# Altium integrated library NSC Analog.IntLib: 143 symbols (part 4 of 4)
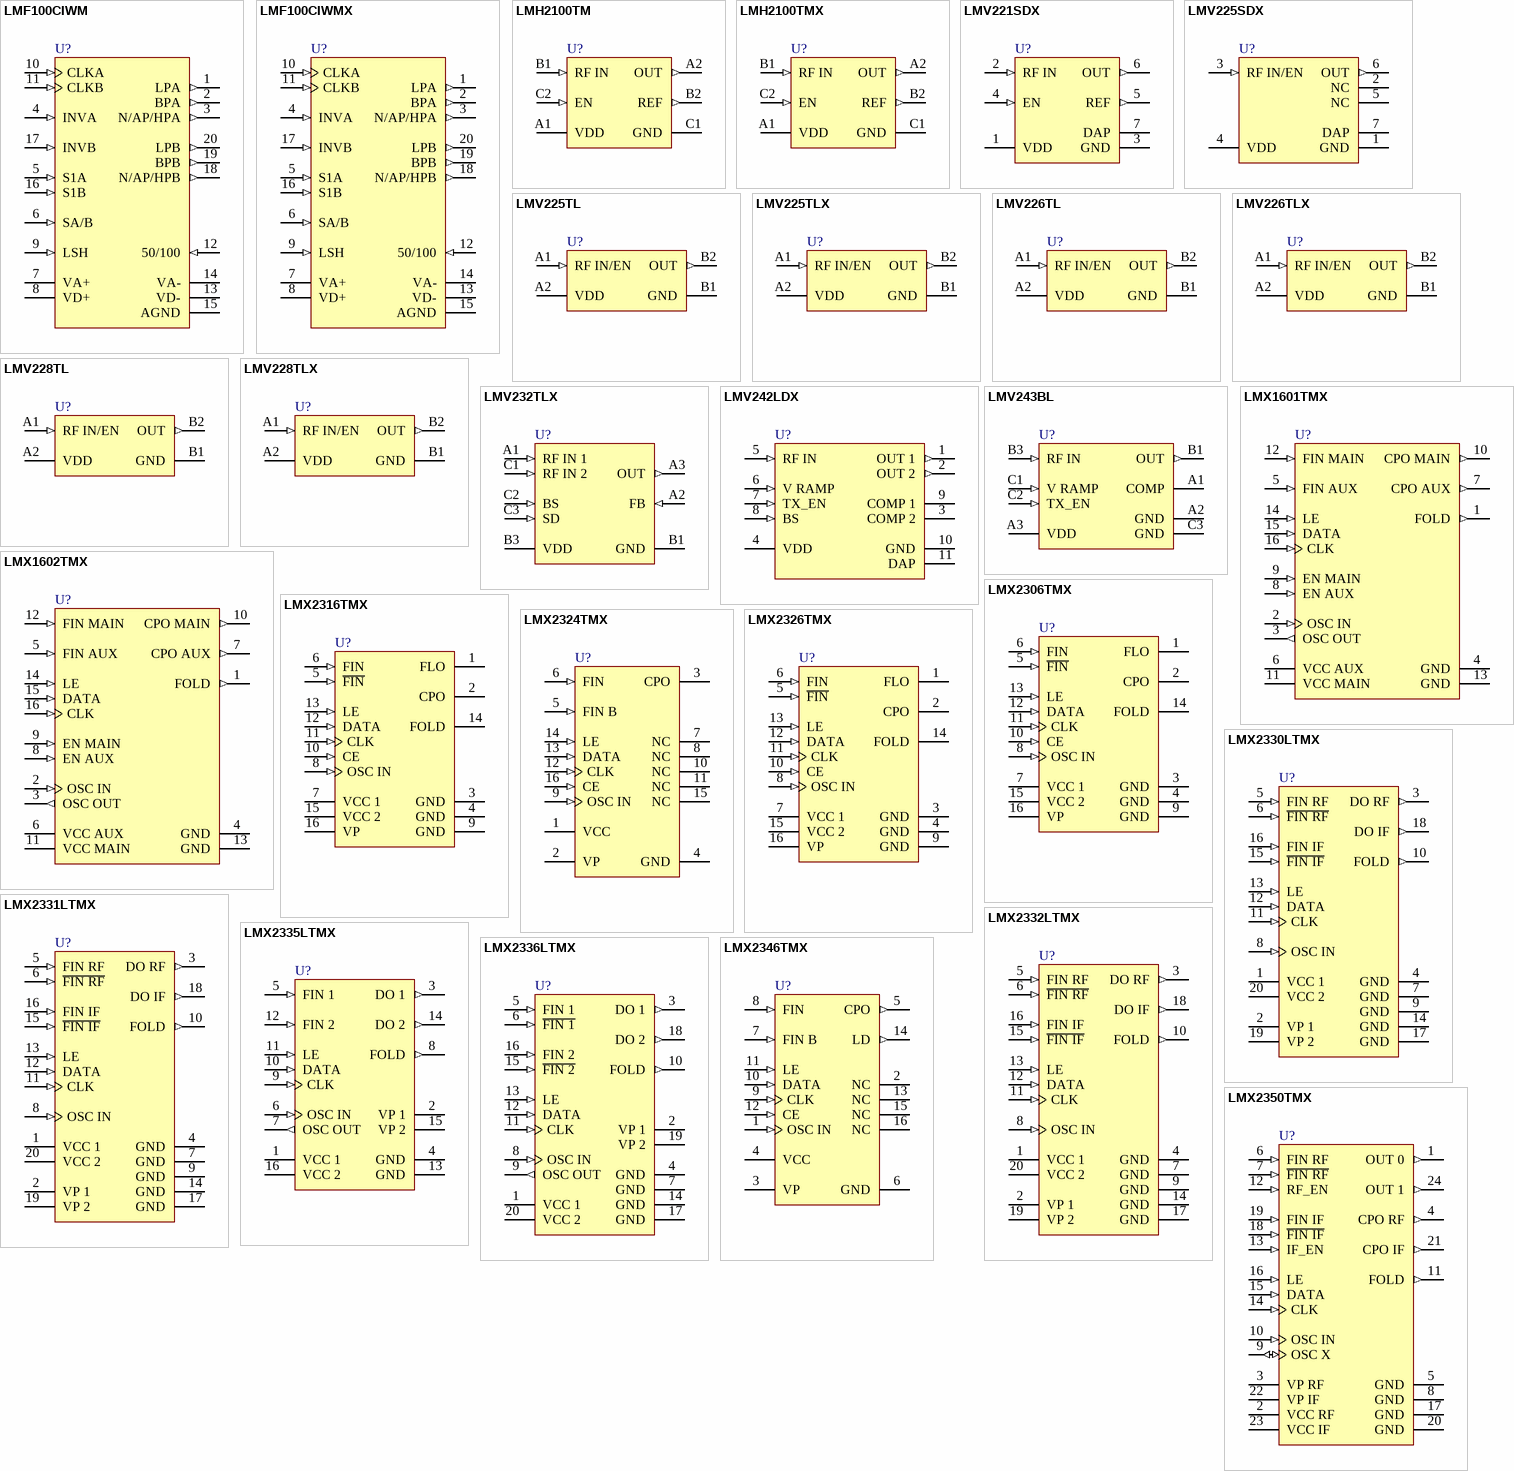
[diagram p10: symbols LMF100CIWM to LMX2350TMX]

## LMX2335LTMX
designator U?
1.1 GHz/1.1 GHz PLLatinum Low Power Dual Frequency Synthesizer for RF Personal Communications; PartNumber: LMX2335LTMX; Manufacturer: National Semiconductor; CompType: Analog IC; PackageTopMarking: NSUZXYTT*LMX2335*LTMDD; Published: 4-Dec-2008; DatasheetVersion: Feb-2001; PackageVersion: revD, Jun-2003; PackageReference: MTC16; Publisher: Altium Limited; PackageDescription: Molded TSSOP, Jedec, 5 x 4.4 x 0.9mm Body, 16 Lead, 0.65mm Pitch; PinCount: 16; DigiKeyPartNumber: LMX2335LTMXCT-ND; Code_JEDEC: MO-153-AB; ComponentLink1Description: LMX2335L Datasheet; ComponentLink1URL: http://www.national.com/ds.cgi/LM/LMX2335L.pdf; ComponentLink2Description: LMX2335L Web Page; ComponentLink2URL: http://www.national.com/pf/LM/LMX2335L.html; ComponentLink3Description: MTC16 package page; ComponentLink3URL: http://www.national.com/packaging/folders/mtc16.html
footprint MTC16_N (TSOP, 16-Leads, Body 5x4.4mm, Pitch 0.65mm, IPC Medium Density)
footprint MTC16_L (TSOP, 16-Leads, Body 5x4.4mm, Pitch 0.65mm, IPC High Density)
footprint MTC16_M (TSOP, 16-Leads, Body 5x4.4mm, Pitch 0.65mm, IPC Low Density)
pins: 1 VCC 1 (power), 2 VP 1 (power), 3 DO 1 (out), 4 GND (power), 5 FIN 1 (in), 6 OSC IN (in), 7 OSC OUT (out), 8 FOLD (out), 9 CLK (in), 10 DATA (in), 11 LE (in), 12 FIN 2 (in), 13 GND (power), 14 DO 2 (out), 15 VP 2 (power), 16 VCC 2 (power)

## LMX2336LTMX
designator U?
2.0 GHz/1.1 GHz PLLatinum Low Power Dual Frequency Synthesizer for RF Personal Communications; PartNumber: LMX2336LTMX; Manufacturer: National Semiconductor; CompType: Analog IC; PackageTopMarking: NSUZXYTT*LMX2336*LTMDD; Published: 4-Dec-2008; DatasheetVersion: Feb-2001; PackageVersion: revE, Mar-2003; PackageReference: MTC20; Publisher: Altium Limited; PackageDescription: Molded TSSOP, Jedec, 6.5 x 4.4 x 0.9mm Body, 20 Lead, 0.65mm Pitch; PinCount: 20; DigiKeyPartNumber: LMX2336LTMX-ND; Code_JEDEC: MO-153-AC; ComponentLink1Description: LMX2336L Datasheet; ComponentLink1URL: http://www.national.com/ds.cgi/LM/LMX2336L.pdf; ComponentLink2Description: LMX2336L Web Page; ComponentLink2URL: http://www.national.com/pf/LM/LMX2336L.html; ComponentLink3Description: MTC20 package page; ComponentLink3URL: http://www.national.com/packaging/folders/mtc20.html
footprint MTC20_N (TSOP, 20-Leads, Body 6.5x4.4mm, Pitch 0.65mm, IPC Medium Density)
footprint MTC20_L (TSOP, 20-Leads, Body 6.5x4.4mm, Pitch 0.65mm, IPC High Density)
footprint MTC20_M (TSOP, 20-Leads, Body 6.5x4.4mm, Pitch 0.65mm, IPC Low Density)
pins: 1 VCC 1 (power), 2 VP 1 (power), 3 DO 1 (out), 4 GND (power), 5 FIN 1 (in), 6 ~{FIN 1} (in), 7 GND (power), 8 OSC IN (in), 9 OSC OUT (out), 10 FOLD (out), 11 CLK (in), 12 DATA (in), 13 LE (in), 14 GND (power), 15 ~{FIN 2} (in), 16 FIN 2 (in), 17 GND (power), 18 DO 2 (out), 19 VP 2 (power), 20 VCC 2 (power)

## LMX2346TMX
designator U?
2.0 GHz PLLatinum Frequency Synthesizer for RF Personal Communications; PartNumber: LMX2346TMX; Manufacturer: National Semiconductor; CompType: Analog IC; PackageTopMarking: NSUZXYTT*LMX2346*TMDD; Published: 4-Dec-2008; DatasheetVersion: Jun-2004; PackageVersion: revD, Jun-2003; PackageReference: MTC16; Publisher: Altium Limited; PackageDescription: Molded TSSOP, Jedec, 5 x 4.4 x 0.9mm Body, 16 Lead, 0.65mm Pitch; PinCount: 16; DigiKeyPartNumber: LMX2346TMX-ND; Code_JEDEC: MO-153-AB; ComponentLink1Description: LMX2346 Datasheet; ComponentLink1URL: http://www.national.com/ds.cgi/LM/LMX2346.pdf; ComponentLink2Description: LMX2346 Web Page; ComponentLink2URL: http://www.national.com/pf/LM/LMX2346.html; ComponentLink3Description: MTC16 package page; ComponentLink3URL: http://www.national.com/packaging/folders/mtc16.html
footprint MTC16_N (TSOP, 16-Leads, Body 5x4.4mm, Pitch 0.65mm, IPC Medium Density)
footprint MTC16_L (TSOP, 16-Leads, Body 5x4.4mm, Pitch 0.65mm, IPC High Density)
footprint MTC16_M (TSOP, 16-Leads, Body 5x4.4mm, Pitch 0.65mm, IPC Low Density)
pins: 1 OSC IN (in), 2 NC, 3 VP (power), 4 VCC (power), 5 CPO (out), 6 GND (power), 7 FIN B (in), 8 FIN (in), 9 CLK (in), 10 DATA (in), 11 LE (in), 12 CE (in), 13 NC, 14 LD (out), 15 NC, 16 NC

## LMX2350TMX
designator U?
2.5 GHz/550 MHz PLLatinum Fractional N RF / Integer N IF Dual Low Power Frequency Synthesizer; PartNumber: LMX2350TMX; Manufacturer: National Semiconductor; CompType: Analog IC; PackageTopMarking: NSUZXYTT*LMX2350*TMDD; Published: 4-Dec-2008; DatasheetVersion: Mar-2001; PackageVersion: revE, Mar-2003; PackageReference: MTC24; Publisher: Altium Limited; PackageDescription: Molded TSSOP, Jedec, 7.8 x 4.4 x 0.9mm Body, 24 Lead, 0.65mm Pitch; PinCount: 24; DigiKeyPartNumber: LMX2350TMX-ND; Code_JEDEC: MO-153-AD; ComponentLink1Description: LMX2350 Datasheet; ComponentLink1URL: http://www.national.com/ds.cgi/LM/LMX2350.pdf; ComponentLink2Description: LMX2350 Web Page; ComponentLink2URL: http://www.national.com/pf/LM/LMX2350.html; ComponentLink3Description: MTC24 package page; ComponentLink3URL: http://www.national.com/packaging/folders/mtc24.html
footprint MTC24_N (TSOP, 24-Leads, Body 7.8x4.4mm, Pitch 0.65mm, IPC Medium Density)
footprint MTC24_L (TSOP, 24-Leads, Body 7.8x4.4mm, Pitch 0.65mm, IPC High Density)
footprint MTC24_M (TSOP, 24-Leads, Body 7.8x4.4mm, Pitch 0.65mm, IPC Low Density)
pins: 1 OUT 0 (out), 2 VCC RF (power), 3 VP RF (power), 4 CPO RF (out), 5 GND (power), 6 FIN RF (in), 7 ~{FIN RF} (in), 8 GND (power), 9 OSC X (io), 10 OSC IN (in), 11 FOLD (out), 12 RF_EN (in), 13 IF_EN (in), 14 CLK (in), 15 DATA (in), 16 LE (in), 17 GND (power), 18 ~{FIN IF} (in), 19 FIN IF (in), 20 GND (power), 21 CPO IF (out), 22 VP IF (power), 23 VCC IF (power), 24 OUT 1 (out)

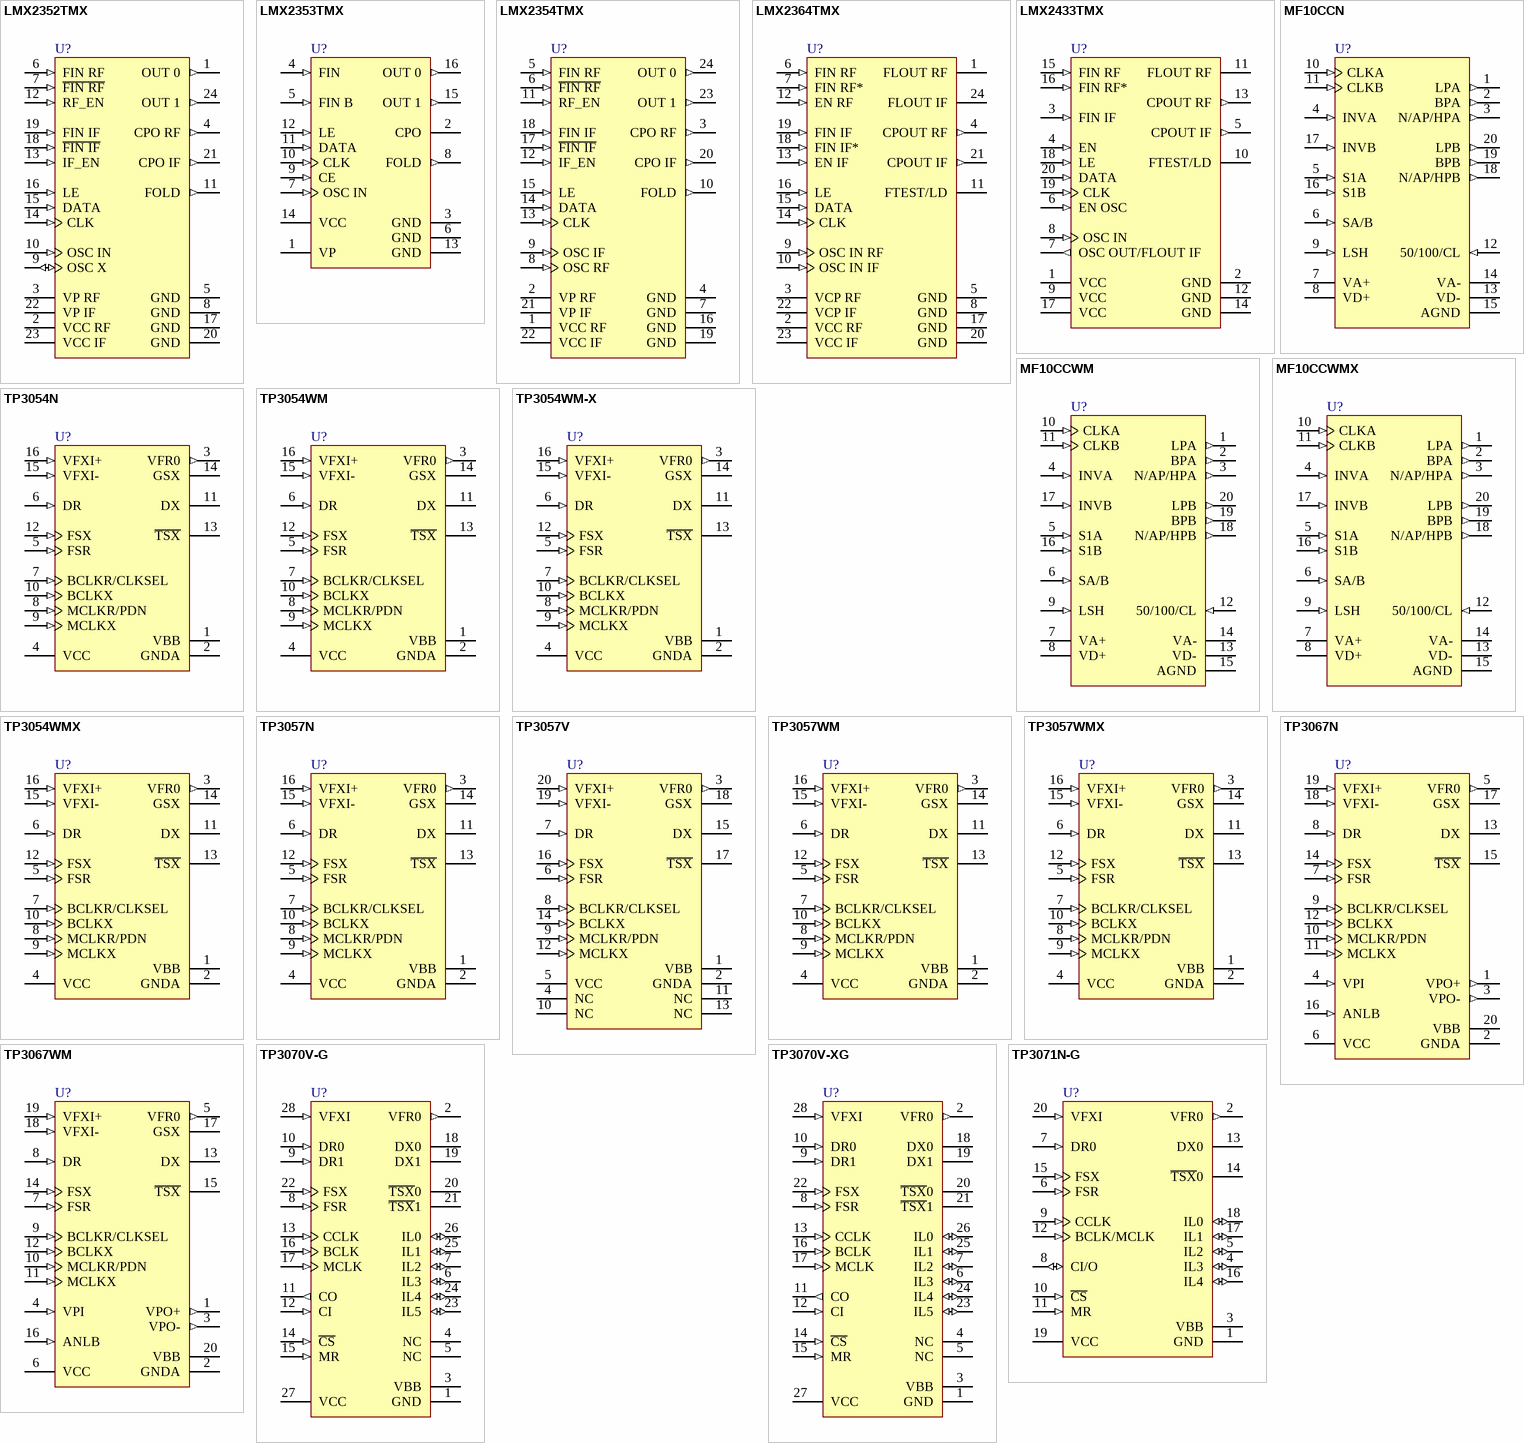
[diagram p6: symbols LMX2352TMX to TP3071N-G]

## LMX2352TMX
designator U?
1.2 GHz/550 MHz PLLatinum Fractional N RF / Integer N IF Dual Low Power Frequency Synthesizer; PartNumber: LMX2352TMX; Manufacturer: National Semiconductor; CompType: Analog IC; PackageTopMarking: NSUZXYTT*LMX2352*TMDD; Published: 4-Dec-2008; DatasheetVersion: Mar-2001; PackageVersion: revE, Mar-2003; PackageReference: MTC24; Publisher: Altium Limited; PackageDescription: Molded TSSOP, Jedec, 7.8 x 4.4 x 0.9mm Body, 24 Lead, 0.65mm Pitch; PinCount: 24; DigiKeyPartNumber: LMX2352TMXCT-ND; Code_JEDEC: MO-153-AD; ComponentLink1Description: LMX2352 Datasheet; ComponentLink1URL: http://www.national.com/ds.cgi/LM/LMX2352.pdf; ComponentLink2Description: LMX2352 Web Page; ComponentLink2URL: http://www.national.com/pf/LM/LMX2352.html; ComponentLink3Description: MTC24 package page; ComponentLink3URL: http://www.national.com/packaging/folders/mtc24.html
footprint MTC24_N (TSOP, 24-Leads, Body 7.8x4.4mm, Pitch 0.65mm, IPC Medium Density)
footprint MTC24_L (TSOP, 24-Leads, Body 7.8x4.4mm, Pitch 0.65mm, IPC High Density)
footprint MTC24_M (TSOP, 24-Leads, Body 7.8x4.4mm, Pitch 0.65mm, IPC Low Density)
pins: 1 OUT 0 (out), 2 VCC RF (power), 3 VP RF (power), 4 CPO RF (out), 5 GND (power), 6 FIN RF (in), 7 ~{FIN RF} (in), 8 GND (power), 9 OSC X (io), 10 OSC IN (in), 11 FOLD (out), 12 RF_EN (in), 13 IF_EN (in), 14 CLK (in), 15 DATA (in), 16 LE (in), 17 GND (power), 18 ~{FIN IF} (in), 19 FIN IF (in), 20 GND (power), 21 CPO IF (out), 22 VP IF (power), 23 VCC IF (power), 24 OUT 1 (out)

## LMX2353TMX
designator U?
PLLatinum Fractional N Single 2.5 GHz Low Power Frequency Synthesizer; PartNumber: LMX2353TMX; Manufacturer: National Semiconductor; CompType: Analog IC; PackageTopMarking: NSUZXYTT*LMX2353*TMDD; Published: 4-Dec-2008; DatasheetVersion: Jan-2001; PackageVersion: revD, Jun-2003; PackageReference: MTC16; Publisher: Altium Limited; PackageDescription: Molded TSSOP, Jedec, 5 x 4.4 x 0.9mm Body, 16 Lead, 0.65mm Pitch; PinCount: 16; DigiKeyPartNumber: LMX2353TMX-ND; Code_JEDEC: MO-153-AB; ComponentLink1Description: LMX2353 Datasheet; ComponentLink1URL: http://www.national.com/ds.cgi/LM/LMX2353.pdf; ComponentLink2Description: LMX2353 Web Page; ComponentLink2URL: http://www.national.com/pf/LM/LMX2353.html; ComponentLink3Description: MTC16 package page; ComponentLink3URL: http://www.national.com/packaging/folders/mtc16.html
footprint MTC16_N (TSOP, 16-Leads, Body 5x4.4mm, Pitch 0.65mm, IPC Medium Density)
footprint MTC16_L (TSOP, 16-Leads, Body 5x4.4mm, Pitch 0.65mm, IPC High Density)
footprint MTC16_M (TSOP, 16-Leads, Body 5x4.4mm, Pitch 0.65mm, IPC Low Density)
pins: 1 VP (power), 2 CPO (hiz), 3 GND (power), 4 FIN (in), 5 FIN B (in), 6 GND (power), 7 OSC IN (in), 8 FOLD (out), 9 CE (in), 10 CLK (in), 11 DATA (in), 12 LE (in), 13 GND (power), 14 VCC (power), 15 OUT 1 (out), 16 OUT 0 (out)

## LMX2354TMX
designator U?
2.5 GHz/550 MHz PLLatinum Fractional N RF/ Integer N IF Dual Low Power Frequency Synthesizer; PartNumber: LMX2354TMX; Manufacturer: National Semiconductor; CompType: Analog IC; PackageTopMarking: NSUZXYTT*LMX2354*TMDD; Published: 4-Dec-2008; DatasheetVersion: Aug-2001; PackageVersion: revE, Mar-2003; PackageReference: MTC24; Publisher: Altium Limited; PackageDescription: Molded TSSOP, Jedec, 7.8 x 4.4 x 0.9mm Body, 24 Lead, 0.65mm Pitch; PinCount: 24; DigiKeyPartNumber: LMX2354TMX-ND; Code_JEDEC: MO-153-AD; ComponentLink1Description: LMX2354 Datasheet; ComponentLink1URL: http://www.national.com/ds.cgi/LM/LMX2354.pdf; ComponentLink2Description: LMX2354 Web Page; ComponentLink2URL: http://www.national.com/pf/LM/LMX2354.html; ComponentLink3Description: MTC24 package page; ComponentLink3URL: http://www.national.com/packaging/folders/mtc24.html
footprint MTC24_N (TSOP, 24-Leads, Body 7.8x4.4mm, Pitch 0.65mm, IPC Medium Density)
footprint MTC24_L (TSOP, 24-Leads, Body 7.8x4.4mm, Pitch 0.65mm, IPC High Density)
footprint MTC24_M (TSOP, 24-Leads, Body 7.8x4.4mm, Pitch 0.65mm, IPC Low Density)
pins: 1 VCC RF (power), 2 VP RF (power), 3 CPO RF (out), 4 GND (power), 5 FIN RF (in), 6 ~{FIN RF} (in), 7 GND (power), 8 OSC RF (in), 9 OSC IF (in), 10 FOLD (out), 11 RF_EN (in), 12 IF_EN (in), 13 CLK (in), 14 DATA (in), 15 LE (in), 16 GND (power), 17 ~{FIN IF} (in), 18 FIN IF (in), 19 GND (power), 20 CPO IF (out), 21 VP IF (power), 22 VCC IF (power), 23 OUT 1 (out), 24 OUT 0 (out)

## LMX2364TMX
designator U?
2.6 GHz PLLatinum Fractional RF Frequency Synthesizer with 850 MHz Integer IF Frequency Synthesizer; PartNumber: LMX2364TMX; Manufacturer: National Semiconductor; CompType: Analog IC; PackageTopMarking: NSUZXYTT*LMX2364TM; Published: 4-Dec-2008; DatasheetVersion: Jul-2003; PackageVersion: revE, Mar-2003; PackageReference: MTC24; Publisher: Altium Limited; PackageDescription: Molded TSSOP, Jedec, 7.8 x 4.4 x 0.9mm Body, 24 Lead, 0.65mm Pitch; PinCount: 24; DigiKeyPartNumber: LMX2364TMX-ND; Code_JEDEC: MO-153-AD; ComponentLink1Description: LMX2364 Datasheet; ComponentLink1URL: http://www.national.com/ds.cgi/LM/LMX2364.pdf; ComponentLink2Description: LMX2364 Web Page; ComponentLink2URL: http://www.national.com/pf/LM/LMX2364.html; ComponentLink3Description: MTC24 package page; ComponentLink3URL: http://www.national.com/packaging/folders/mtc24.html
footprint MTC24_N (TSOP, 24-Leads, Body 7.8x4.4mm, Pitch 0.65mm, IPC Medium Density)
footprint MTC24_L (TSOP, 24-Leads, Body 7.8x4.4mm, Pitch 0.65mm, IPC High Density)
footprint MTC24_M (TSOP, 24-Leads, Body 7.8x4.4mm, Pitch 0.65mm, IPC Low Density)
pins: 1 FLOUT RF (hiz), 2 VCC RF (power), 3 VCP RF (power), 4 CPOUT RF (out), 5 GND (power), 6 FIN RF (in), 7 FIN RF* (in), 8 GND (power), 9 OSC IN RF (in), 10 OSC IN IF (in), 11 FTEST/LD (hiz), 12 EN RF (in), 13 EN IF (in), 14 CLK (in), 15 DATA (in), 16 LE (in), 17 GND (power), 18 FIN IF* (in), 19 FIN IF (in), 20 GND (power), 21 CPOUT IF (out), 22 VCP IF (power), 23 VCC IF (power), 24 FLOUT IF (hiz)

## LMX2433TMX
designator U?
3.6 GHz/1.7 GHz PLLatinum Dual High Frequency Synthesizer for RF Personal Communications; PartNumber: LMX2433TMX; Manufacturer: National Semiconductor; CompType: Analog IC; PackageTopMarking: NSUZXYTT*LMX2433*TMDD; Published: 4-Dec-2008; DatasheetVersion: May-2003; PackageVersion: revE, Mar-2003; PackageReference: MTC20; Publisher: Altium Limited; PackageDescription: Molded TSSOP, Jedec, 6.5 x 4.4 x 0.9mm Body, 20 Lead, 0.65mm Pitch; PinCount: 20; DigiKeyPartNumber: LMX2433TMX-ND; Code_JEDEC: MO-153-AC; ComponentLink1Description: LMX2433 Datasheet; ComponentLink1URL: http://www.national.com/ds.cgi/LM/LMX2433.pdf; ComponentLink2Description: LMX2433 Web Page; ComponentLink2URL: http://www.national.com/pf/LM/LMX2433.html; ComponentLink3Description: MTC20 package page; ComponentLink3URL: http://www.national.com/packaging/folders/mtc20.html
footprint MTC20_N (TSOP, 20-Leads, Body 6.5x4.4mm, Pitch 0.65mm, IPC Medium Density)
footprint MTC20_L (TSOP, 20-Leads, Body 6.5x4.4mm, Pitch 0.65mm, IPC High Density)
footprint MTC20_M (TSOP, 20-Leads, Body 6.5x4.4mm, Pitch 0.65mm, IPC Low Density)
pins: 1 VCC (power), 2 GND (power), 3 FIN IF (in), 4 EN (in), 5 CPOUT IF (out), 6 EN OSC (in), 7 OSC OUT/FLOUT IF (out), 8 OSC IN (in), 9 VCC (power), 10 FTEST/LD (hiz), 11 FLOUT RF (hiz), 12 GND (power), 13 CPOUT RF (out), 14 GND (power), 15 FIN RF (in), 16 FIN RF* (in), 17 VCC (power), 18 LE (in), 19 CLK (in), 20 DATA (in)

## MF10CCN
designator U?
Universal Monolithic Dual Switched Capacitor Filter; PartNumber: MF10CCN; Manufacturer: National Semiconductor; CompType: Analog IC; PackageTopMarking: NSUZXYYTTE#*MF10CCN; PowerWise: N; Published: 4-Dec-2008; DatasheetVersion: May-2001; PackageVersion: revG, Nov-1984; PackageReference: N20A; Publisher: Altium Limited; PackageDescription: Molded Dip (N) 20 Lead; PinCount: 20; DigiKeyPartNumber: MF10CCN-ND; Code_JEDEC: MS-001-AD; ComponentLink1Description: MF10 Datasheet; ComponentLink1URL: http://www.national.com/ds.cgi/MF/MF10.pdf; ComponentLink2Description: MF10 Web Page; ComponentLink2URL: http://www.national.com/pf/MF/MF10.html; ComponentLink3Description: N20A package page; ComponentLink3URL: http://www.national.com/packaging/folders/n20a.html
footprint N20A (DIP, 20-Leads, Row Spacing 7.62mm, Pitch 2.54mm, Body 26.07x6.6mm)
pins: 1 LPA (out), 2 BPA (out), 3 N/AP/HPA (out), 4 INVA (in), 5 S1A (in), 6 SA/B (in), 7 VA+ (power), 8 VD+ (power), 9 LSH (in), 10 CLKA (in), 11 CLKB (in), 12 50/100/CL (in), 13 VD- (power), 14 VA- (power), 15 AGND (power), 16 S1B (in), 17 INVB (in), 18 N/AP/HPB (out), 19 BPB (out), 20 LPB (out)

## MF10CCWM
designator U?
Universal Monolithic Dual Switched Capacitor Filter; PartNumber: MF10CCWM; Manufacturer: National Semiconductor; CompType: Analog IC; PackageTopMarking: NSUZXYTT*MF10CCWM; PowerWise: N; Published: 29-May-2009; DatasheetVersion: May-2001; PackageVersion: revG, Jan-1996; PackageReference: M20B; Publisher: Altium Limited; PackageDescription: Molded Package, S0, .300in Wide, 20 Lead; RoHS: O; PinCount: 20; DigiKeyPartNumber: MF10CCWM-ND; Code_JEDEC: MS-013-AC; Code_IPC: SOIC127P1030-20; ComponentLink1Description: MF10 Datasheet; ComponentLink1URL: http://www.national.com/ds/MF/MF10.pdf; ComponentLink2Description: MF10 Web Page; ComponentLink2URL: http://www.national.com/pf/MF/MF10.html; ComponentLink3Description: M20B Package Page; ComponentLink3URL: http://www.national.com/packaging/folders/m20b.html
footprint M20B_N (SOIC, 20-Leads, Body 12.8x7.5mm, Pitch 1.27mm, IPC Medium Density)
footprint M20B_L (SOIC, 20-Leads, Body 12.8x7.5mm, Pitch 1.27mm, IPC High Density)
footprint M20B_M (SOIC, 20-Leads, Body 12.8x7.5mm, Pitch 1.27mm, IPC Low Density)
pins: 1 LPA (out), 2 BPA (out), 3 N/AP/HPA (out), 4 INVA (in), 5 S1A (in), 6 SA/B (in), 7 VA+ (power), 8 VD+ (power), 9 LSH (in), 10 CLKA (in), 11 CLKB (in), 12 50/100/CL (in), 13 VD- (power), 14 VA- (power), 15 AGND (power), 16 S1B (in), 17 INVB (in), 18 N/AP/HPB (out), 19 BPB (out), 20 LPB (out)

## MF10CCWMX
designator U?
Universal Monolithic Dual Switched Capacitor Filter; PartNumber: MF10CCWMX; Manufacturer: National Semiconductor; CompType: Analog IC; PackageTopMarking: NSUZXYTT*MF10CCWM; Published: 4-Dec-2008; DatasheetVersion: May-2001; PackageVersion: revG, Jan-1996; PackageReference: M20B; Publisher: Altium Limited; PackageDescription: Molded Package, S0, .300in Wide, 20 Lead; PinCount: 20; DigiKeyPartNumber: MF10CCWMX-ND; Code_JEDEC: MS-013-AC; Code_IPC: SOIC127P1030-20; ComponentLink1Description: MF10 Datasheet; ComponentLink1URL: http://www.national.com/ds.cgi/MF/MF10.pdf; ComponentLink2Description: MF10 Web Page; ComponentLink2URL: http://www.national.com/pf/MF/MF10.html; ComponentLink3Description: M20B package page; ComponentLink3URL: http://www.national.com/packaging/folders/m20b.html
footprint M20B_N (SOIC, 20-Leads, Body 12.8x7.5mm, Pitch 1.27mm, IPC Medium Density)
footprint M20B_L (SOIC, 20-Leads, Body 12.8x7.5mm, Pitch 1.27mm, IPC High Density)
footprint M20B_M (SOIC, 20-Leads, Body 12.8x7.5mm, Pitch 1.27mm, IPC Low Density)
pins: 1 LPA (out), 2 BPA (out), 3 N/AP/HPA (out), 4 INVA (in), 5 S1A (in), 6 SA/B (in), 7 VA+ (power), 8 VD+ (power), 9 LSH (in), 10 CLKA (in), 11 CLKB (in), 12 50/100/CL (in), 13 VD- (power), 14 VA- (power), 15 AGND (power), 16 S1B (in), 17 INVB (in), 18 N/AP/HPB (out), 19 BPB (out), 20 LPB (out)

## TP3054N
designator U?
"Enhanced'' Serial Interface CODEC/Filter COMBO; PartNumber: TP3054N; Manufacturer: National Semiconductor; CompType: Analog IC; PackageTopMarking: NSUZXYYTT*TP3054N*COMBOR; PowerWise: N; Published: 4-Dec-2008; DatasheetVersion: Aug-1994; PackageVersion: revG, May-2006; PackageReference: N16E; Publisher: Altium Limited; PackageDescription: MDIP, .750 x .250 x .130in, 16 Lead, .100in Pitch; PinCount: 16; DigiKeyPartNumber: TP3054N-ND; Code_JEDEC: MS-001-BB; ComponentLink1Description: TP3054 Datasheet; ComponentLink1URL: http://www.national.com/ds.cgi/TP/TP3054.pdf; ComponentLink2Description: TP3054 Web Page; ComponentLink2URL: http://www.national.com/pf/TP/TP3054.html; ComponentLink3Description: N16E package page; ComponentLink3URL: http://www.national.com/packaging/folders/n16e.html
footprint N16E (DIP, 16-Leads, Row Spacing 7.62mm, Pitch 2.54mm, Body 19.3x6.35mm)
pins: 1 VBB (power), 2 GNDA (power), 3 VFR0 (out), 4 VCC (power), 5 FSR (in), 6 DR (in), 7 BCLKR/CLKSEL (in), 8 MCLKR/PDN (in), 9 MCLKX (in), 10 BCLKX (in), 11 DX (hiz), 12 FSX (in), 13 ~{TSX} (oc), 14 GSX, 15 VFXI- (in), 16 VFXI+ (in)

## TP3054WM
designator U?
"Enhanced'' Serial Interface CODEC/Filter COMBO; PartNumber: TP3054WM; Manufacturer: National Semiconductor; CompType: Analog IC; PackageTopMarking: NSUZXYTT*TP3054WM*COMBOR; PowerWise: N; Published: 4-Dec-2008; DatasheetVersion: Aug-1994; PackageVersion: revF, Apr-1990; PackageReference: M16B; Publisher: Altium Limited; PackageDescription: Molded Package, S.O., .300in Wide, 16 Lead; PinCount: 16; DigiKeyPartNumber: TP3054WM-ND; Code_JEDEC: MS-013-AA; Code_IPC: SOIC127P1030-16; ComponentLink1Description: TP3054 Datasheet; ComponentLink1URL: http://www.national.com/ds.cgi/TP/TP3054.pdf; ComponentLink2Description: TP3054 Web Page; ComponentLink2URL: http://www.national.com/pf/TP/TP3054.html; ComponentLink3Description: M16B package page; ComponentLink3URL: http://www.national.com/packaging/folders/m16b.html
footprint M16B_N (SOIC, 16-Leads, Body 10.3x7.5mm, Pitch 1.27mm, IPC Medium Density)
footprint M16B_L (SOIC, 16-Leads, Body 10.3x7.5mm, Pitch 1.27mm, IPC High Density)
footprint M16B_M (SOIC, 16-Leads, Body 10.3x7.5mm, Pitch 1.27mm, IPC Low Density)
pins: 1 VBB (power), 2 GNDA (power), 3 VFR0 (out), 4 VCC (power), 5 FSR (in), 6 DR (in), 7 BCLKR/CLKSEL (in), 8 MCLKR/PDN (in), 9 MCLKX (in), 10 BCLKX (in), 11 DX (hiz), 12 FSX (in), 13 ~{TSX} (oc), 14 GSX, 15 VFXI- (in), 16 VFXI+ (in)

## TP3054WM-X
designator U?
"Enhanced'' Serial Interface CODEC/Filter COMBO; PartNumber: TP3054WM-X; Manufacturer: National Semiconductor; CompType: Analog IC; PackageTopMarking: NSUZXYTT*TP3054WM-X*COMBOR; PowerWise: N; Published: 4-Dec-2008; DatasheetVersion: Aug-1994; PackageVersion: revF, Apr-1990; PackageReference: M16B; Publisher: Altium Limited; PackageDescription: Molded Package, S.O., .300in Wide, 16 Lead; PinCount: 16; DigiKeyPartNumber: TP3054WM-X-ND; Code_JEDEC: MS-013-AA; Code_IPC: SOIC127P1030-16; ComponentLink1Description: TP3054 Datasheet; ComponentLink1URL: http://www.national.com/ds.cgi/TP/TP3054.pdf; ComponentLink2Description: TP3054 Web Page; ComponentLink2URL: http://www.national.com/pf/TP/TP3054.html; ComponentLink3Description: M16B package page; ComponentLink3URL: http://www.national.com/packaging/folders/m16b.html
footprint M16B_N (SOIC, 16-Leads, Body 10.3x7.5mm, Pitch 1.27mm, IPC Medium Density)
footprint M16B_L (SOIC, 16-Leads, Body 10.3x7.5mm, Pitch 1.27mm, IPC High Density)
footprint M16B_M (SOIC, 16-Leads, Body 10.3x7.5mm, Pitch 1.27mm, IPC Low Density)
pins: 1 VBB (power), 2 GNDA (power), 3 VFR0 (out), 4 VCC (power), 5 FSR (in), 6 DR (in), 7 BCLKR/CLKSEL (in), 8 MCLKR/PDN (in), 9 MCLKX (in), 10 BCLKX (in), 11 DX (hiz), 12 FSX (in), 13 ~{TSX} (oc), 14 GSX, 15 VFXI- (in), 16 VFXI+ (in)

## TP3054WMX
designator U?
"Enhanced'' Serial Interface CODEC/Filter COMBO; PartNumber: TP3054WMX; Manufacturer: National Semiconductor; CompType: Analog IC; PackageTopMarking: NSUZXYTT*TP3054WM*COMBOR; Published: 4-Dec-2008; DatasheetVersion: Aug-1994; PackageVersion: revF, Apr-1990; PackageReference: M16B; Publisher: Altium Limited; PackageDescription: Molded Package, S.O., .300in Wide, 16 Lead; PinCount: 16; DigiKeyPartNumber: TP3054WMX-ND; Code_JEDEC: MS-013-AA; Code_IPC: SOIC127P1030-16; ComponentLink1Description: TP3054 Datasheet; ComponentLink1URL: http://www.national.com/ds.cgi/TP/TP3054.pdf; ComponentLink2Description: TP3054 Web Page; ComponentLink2URL: http://www.national.com/pf/TP/TP3054.html; ComponentLink3Description: M16B package page; ComponentLink3URL: http://www.national.com/packaging/folders/m16b.html
footprint M16B_N (SOIC, 16-Leads, Body 10.3x7.5mm, Pitch 1.27mm, IPC Medium Density)
footprint M16B_L (SOIC, 16-Leads, Body 10.3x7.5mm, Pitch 1.27mm, IPC High Density)
footprint M16B_M (SOIC, 16-Leads, Body 10.3x7.5mm, Pitch 1.27mm, IPC Low Density)
pins: 1 VBB (power), 2 GNDA (power), 3 VFR0 (out), 4 VCC (power), 5 FSR (in), 6 DR (in), 7 BCLKR/CLKSEL (in), 8 MCLKR/PDN (in), 9 MCLKX (in), 10 BCLKX (in), 11 DX (hiz), 12 FSX (in), 13 ~{TSX} (oc), 14 GSX, 15 VFXI- (in), 16 VFXI+ (in)

## TP3057N
designator U?
"Enhanced'' Serial Interface CODEC/Filter COMBO; PartNumber: TP3057N; Manufacturer: National Semiconductor; CompType: Analog IC; PackageTopMarking: NSUZXYYTT*TP3057N*COMBOR; PowerWise: N; Published: 4-Dec-2008; DatasheetVersion: Aug-1994; PackageVersion: revG, May-2006; PackageReference: N16E; Publisher: Altium Limited; PackageDescription: MDIP, .750 x .250 x .130in, 16 Lead, .100in Pitch; PinCount: 16; DigiKeyPartNumber: TP3057N-ND; Code_JEDEC: MS-001-BB; ComponentLink1Description: TP3057 Datasheet; ComponentLink1URL: http://www.national.com/ds.cgi/TP/TP3057.pdf; ComponentLink2Description: TP3057 Web Page; ComponentLink2URL: http://www.national.com/pf/TP/TP3057.html; ComponentLink3Description: N16E package page; ComponentLink3URL: http://www.national.com/packaging/folders/n16e.html
footprint N16E (DIP, 16-Leads, Row Spacing 7.62mm, Pitch 2.54mm, Body 19.3x6.35mm)
pins: 1 VBB (power), 2 GNDA (power), 3 VFR0 (out), 4 VCC (power), 5 FSR (in), 6 DR (in), 7 BCLKR/CLKSEL (in), 8 MCLKR/PDN (in), 9 MCLKX (in), 10 BCLKX (in), 11 DX (hiz), 12 FSX (in), 13 ~{TSX} (oc), 14 GSX, 15 VFXI- (in), 16 VFXI+ (in)

## TP3057V
designator U?
"Enhanced'' Serial Interface CODEC/Filter COMBO; PartNumber: TP3057V; Manufacturer: National Semiconductor; CompType: Analog IC; PackageTopMarking: NSUZXYTT*TP3057V*COMBOR; PowerWise: N; Published: 4-Dec-2008; DatasheetVersion: Aug-1994; PackageVersion: revL, Dec-1993; PackageReference: V20A; Publisher: Altium Limited; PackageDescription: Plastic Chip Carrier, Sq., .050in Pitch, 20 Lead; PinCount: 20; DigiKeyPartNumber: TP3057V-ND; Code_JEDEC: MO-047-AA; Code_IPC: PLCC-20; ComponentLink1Description: TP3057 Datasheet; ComponentLink1URL: http://www.national.com/ds.cgi/TP/TP3057.pdf; ComponentLink2Description: TP3057 Web Page; ComponentLink2URL: http://www.national.com/pf/TP/TP3057.html; ComponentLink3Description: V20A package page; ComponentLink3URL: http://www.national.com/packaging/folders/v20a.html
footprint V20A_N (Leaded Chip Carrier, 20-Leads, Body 9x9mm, Pitch 1.27mm, IPC Medium Density)
footprint V20A_L (Leaded Chip Carrier, 20-Leads, Body 9x9mm, Pitch 1.27mm, IPC High Density)
footprint V20A_M (Leaded Chip Carrier, 20-Leads, Body 9x9mm, Pitch 1.27mm, IPC Low Density)
pins: 1 VBB (power), 2 GNDA (power), 3 VFR0 (out), 4 NC, 5 VCC (power), 6 FSR (in), 7 DR (in), 8 BCLKR/CLKSEL (in), 9 MCLKR/PDN (in), 10 NC, 11 NC, 12 MCLKX (in), 13 NC, 14 BCLKX (in), 15 DX (hiz), 16 FSX (in), 17 ~{TSX} (oc), 18 GSX, 19 VFXI- (in), 20 VFXI+ (in)

## TP3057WM
designator U?
"Enhanced'' Serial Interface CODEC/Filter COMBO; PartNumber: TP3057WM; Manufacturer: National Semiconductor; CompType: Analog IC; PackageTopMarking: NSUZXYTT*TP3057WM*COMBOR; PowerWise: N; Published: 4-Dec-2008; DatasheetVersion: Aug-1994; PackageVersion: revF, Apr-1990; PackageReference: M16B; Publisher: Altium Limited; PackageDescription: Molded Package, S.O., .300in Wide, 16 Lead; PinCount: 16; DigiKeyPartNumber: TP3057WM-ND; Code_JEDEC: MS-013-AA; Code_IPC: SOIC127P1030-16; ComponentLink1Description: TP3057 Datasheet; ComponentLink1URL: http://www.national.com/ds.cgi/TP/TP3057.pdf; ComponentLink2Description: TP3057 Web Page; ComponentLink2URL: http://www.national.com/pf/TP/TP3057.html; ComponentLink3Description: M16B package page; ComponentLink3URL: http://www.national.com/packaging/folders/m16b.html
footprint M16B_N (SOIC, 16-Leads, Body 10.3x7.5mm, Pitch 1.27mm, IPC Medium Density)
footprint M16B_L (SOIC, 16-Leads, Body 10.3x7.5mm, Pitch 1.27mm, IPC High Density)
footprint M16B_M (SOIC, 16-Leads, Body 10.3x7.5mm, Pitch 1.27mm, IPC Low Density)
pins: 1 VBB (power), 2 GNDA (power), 3 VFR0 (out), 4 VCC (power), 5 FSR (in), 6 DR (in), 7 BCLKR/CLKSEL (in), 8 MCLKR/PDN (in), 9 MCLKX (in), 10 BCLKX (in), 11 DX (hiz), 12 FSX (in), 13 ~{TSX} (oc), 14 GSX, 15 VFXI- (in), 16 VFXI+ (in)

## TP3057WMX
designator U?
"Enhanced'' Serial Interface CODEC/Filter COMBO; PartNumber: TP3057WMX; Manufacturer: National Semiconductor; CompType: Analog IC; PackageTopMarking: NSUZXYTT*TP3057WM*COMBOR; Published: 4-Dec-2008; DatasheetVersion: Aug-1994; PackageVersion: revF, Apr-1990; PackageReference: M16B; Publisher: Altium Limited; PackageDescription: Molded Package, S.O., .300in Wide, 16 Lead; PinCount: 16; DigiKeyPartNumber: TP3057WMX-ND; Code_JEDEC: MS-013-AA; Code_IPC: SOIC127P1030-16; ComponentLink1Description: TP3057 Datasheet; ComponentLink1URL: http://www.national.com/ds.cgi/TP/TP3057.pdf; ComponentLink2Description: TP3057 Web Page; ComponentLink2URL: http://www.national.com/pf/TP/TP3057.html; ComponentLink3Description: M16B package page; ComponentLink3URL: http://www.national.com/packaging/folders/m16b.html
footprint M16B_N (SOIC, 16-Leads, Body 10.3x7.5mm, Pitch 1.27mm, IPC Medium Density)
footprint M16B_L (SOIC, 16-Leads, Body 10.3x7.5mm, Pitch 1.27mm, IPC High Density)
footprint M16B_M (SOIC, 16-Leads, Body 10.3x7.5mm, Pitch 1.27mm, IPC Low Density)
pins: 1 VBB (power), 2 GNDA (power), 3 VFR0 (out), 4 VCC (power), 5 FSR (in), 6 DR (in), 7 BCLKR/CLKSEL (in), 8 MCLKR/PDN (in), 9 MCLKX (in), 10 BCLKX (in), 11 DX (hiz), 12 FSX (in), 13 ~{TSX} (oc), 14 GSX, 15 VFXI- (in), 16 VFXI+ (in)

## TP3067N
designator U?
"Enhanced'' Serial Interface CODEC/Filter COMBO; PartNumber: TP3067N; Manufacturer: National Semiconductor; CompType: Analog IC; PackageTopMarking: NSUZXYYTTE#*TP3067N*COMBOR; PowerWise: N; Published: 4-Dec-2008; DatasheetVersion: Oct-1991; PackageVersion: revG, Nov-1984; PackageReference: N20A; Publisher: Altium Limited; PackageDescription: Molded Dip (N) 20 Lead; PinCount: 20; DigiKeyPartNumber: TP3067N-ND; Code_JEDEC: MS-001-AD; ComponentLink1Description: TP3067 Datasheet; ComponentLink1URL: http://www.national.com/ds.cgi/TP/TP3067.pdf; ComponentLink2Description: TP3067 Web Page; ComponentLink2URL: http://www.national.com/pf/TP/TP3067.html; ComponentLink3Description: N20A package page; ComponentLink3URL: http://www.national.com/packaging/folders/n20a.html
footprint N20A (DIP, 20-Leads, Row Spacing 7.62mm, Pitch 2.54mm, Body 26.07x6.6mm)
pins: 1 VPO+ (out), 2 GNDA (power), 3 VPO- (out), 4 VPI (in), 5 VFR0 (out), 6 VCC (power), 7 FSR (in), 8 DR (in), 9 BCLKR/CLKSEL (in), 10 MCLKR/PDN (in), 11 MCLKX (in), 12 BCLKX (in), 13 DX (hiz), 14 FSX (in), 15 ~{TSX} (oc), 16 ANLB (in), 17 GSX, 18 VFXI- (in), 19 VFXI+ (in), 20 VBB (power)

## TP3067WM
designator U?
"Enhanced'' Serial Interface CODEC/Filter COMBO; PartNumber: TP3067WM; Manufacturer: National Semiconductor; CompType: Analog IC; PackageTopMarking: NSUZXYTT*TP3067WM*COMBOR; PowerWise: N; Published: 4-Dec-2008; DatasheetVersion: Oct-1991; PackageVersion: revG, Jan-1996; PackageReference: M20B; Publisher: Altium Limited; PackageDescription: Molded Package, S0, .300in Wide, 20 Lead; PinCount: 20; DigiKeyPartNumber: TP3067WM-ND; Code_JEDEC: MS-013-AC; Code_IPC: SOIC127P1030-20; ComponentLink1Description: TP3067 Datasheet; ComponentLink1URL: http://www.national.com/ds.cgi/TP/TP3067.pdf; ComponentLink2Description: TP3067 Web Page; ComponentLink2URL: http://www.national.com/pf/TP/TP3067.html; ComponentLink3Description: M20B package page; ComponentLink3URL: http://www.national.com/packaging/folders/m20b.html
footprint M20B_N (SOIC, 20-Leads, Body 12.8x7.5mm, Pitch 1.27mm, IPC Medium Density)
footprint M20B_L (SOIC, 20-Leads, Body 12.8x7.5mm, Pitch 1.27mm, IPC High Density)
footprint M20B_M (SOIC, 20-Leads, Body 12.8x7.5mm, Pitch 1.27mm, IPC Low Density)
pins: 1 VPO+ (out), 2 GNDA (power), 3 VPO- (out), 4 VPI (in), 5 VFR0 (out), 6 VCC (power), 7 FSR (in), 8 DR (in), 9 BCLKR/CLKSEL (in), 10 MCLKR/PDN (in), 11 MCLKX (in), 12 BCLKX (in), 13 DX (hiz), 14 FSX (in), 15 ~{TSX} (oc), 16 ANLB (in), 17 GSX, 18 VFXI- (in), 19 VFXI+ (in), 20 VBB (power)

## TP3070V-G
designator U?
COMBO II Programmable PCM CODEC/Filter; PartNumber: TP3070V-G; Manufacturer: National Semiconductor; CompType: Analog IC; PackageTopMarking: NSUZXYYTT*TP3070V-G*COMBOR; PowerWise: N; Published: 4-Dec-2008; DatasheetVersion: Apr-1994; PackageVersion: revK, Dec-1993; PackageReference: V28A; Publisher: Altium Limited; PackageDescription: Plastic Chip Carrier, Sq., .050in Pitch, 28 Lead; PinCount: 28; DigiKeyPartNumber: TP3070V-G-ND; Code_IPC: PLCC-28; ComponentLink1Description: TP3070 Datasheet; ComponentLink1URL: http://www.national.com/ds.cgi/TP/TP3070.pdf; ComponentLink2Description: TP3070 Web Page; ComponentLink2URL: http://www.national.com/pf/TP/TP3070.html; ComponentLink3Description: V28A package page; ComponentLink3URL: http://www.national.com/packaging/folders/v28a.html
footprint V28A_N (Leaded Chip Carrier, 28-Leads, Body 11.5x11.5mm, Pitch 1.27mm, IPC Medium Density)
footprint V28A_L (Leaded Chip Carrier, 28-Leads, Body 11.5x11.5mm, Pitch 1.27mm, IPC High Density)
footprint V28A_M (Leaded Chip Carrier, 28-Leads, Body 11.5x11.5mm, Pitch 1.27mm, IPC Low Density)
pins: 1 GND (power), 2 VFR0 (out), 3 VBB (power), 4 NC, 5 NC, 6 IL3 (io), 7 IL2 (io), 8 FSR (in), 9 DR1 (in), 10 DR0 (in), 11 CO (out), 12 CI (in), 13 CCLK (in), 14 ~{CS} (in), 15 MR (in), 16 BCLK (in), 17 MCLK (in), 18 DX0 (hiz), 19 DX1 (hiz), 20 ~{TSX}0 (oc), 21 ~{TSX}1 (oc), 22 FSX (in), 23 IL5 (io), 24 IL4 (io), 25 IL1 (io), 26 IL0 (io), 27 VCC (power), 28 VFXI (in)

## TP3070V-XG
designator U?
COMBO II Programmable PCM CODEC/Filter; PartNumber: TP3070V-XG; Manufacturer: National Semiconductor; CompType: Analog IC; PackageTopMarking: NSUZXYYTT*TP3070V-XG*COMBOR; PowerWise: N; Published: 4-Dec-2008; DatasheetVersion: Apr-1994; PackageVersion: revK, Dec-1993; PackageReference: V28A; Publisher: Altium Limited; PackageDescription: Plastic Chip Carrier, Sq., .050in Pitch, 28 Lead; PinCount: 28; DigiKeyPartNumber: TP3070V-XG-ND; Code_IPC: PLCC-28; ComponentLink1Description: TP3070 Datasheet; ComponentLink1URL: http://www.national.com/ds.cgi/TP/TP3070.pdf; ComponentLink2Description: TP3070 Web Page; ComponentLink2URL: http://www.national.com/pf/TP/TP3070.html; ComponentLink3Description: V28A package page; ComponentLink3URL: http://www.national.com/packaging/folders/v28a.html
footprint V28A_N (Leaded Chip Carrier, 28-Leads, Body 11.5x11.5mm, Pitch 1.27mm, IPC Medium Density)
footprint V28A_L (Leaded Chip Carrier, 28-Leads, Body 11.5x11.5mm, Pitch 1.27mm, IPC High Density)
footprint V28A_M (Leaded Chip Carrier, 28-Leads, Body 11.5x11.5mm, Pitch 1.27mm, IPC Low Density)
pins: 1 GND (power), 2 VFR0 (out), 3 VBB (power), 4 NC, 5 NC, 6 IL3 (io), 7 IL2 (io), 8 FSR (in), 9 DR1 (in), 10 DR0 (in), 11 CO (out), 12 CI (in), 13 CCLK (in), 14 ~{CS} (in), 15 MR (in), 16 BCLK (in), 17 MCLK (in), 18 DX0 (hiz), 19 DX1 (hiz), 20 ~{TSX}0 (oc), 21 ~{TSX}1 (oc), 22 FSX (in), 23 IL5 (io), 24 IL4 (io), 25 IL1 (io), 26 IL0 (io), 27 VCC (power), 28 VFXI (in)

## TP3071N-G
designator U?
COMBO II Programmable PCM CODEC/Filter; PartNumber: TP3071N-G; Manufacturer: National Semiconductor; CompType: Analog IC; PackageTopMarking: NSUZXYYTTE#*TP3071N-G*COMBOR; PowerWise: N; Published: 4-Dec-2008; DatasheetVersion: Apr-1994; PackageVersion: revG, Nov-1984; PackageReference: N20A; Publisher: Altium Limited; PackageDescription: Molded Dip (N) 20 Lead; PinCount: 20; DigiKeyPartNumber: TP3071N-G-ND; Code_JEDEC: MS-001-AD; ComponentLink1Description: TP3071 Datasheet; ComponentLink1URL: http://www.national.com/ds.cgi/TP/TP3071.pdf; ComponentLink2Description: TP3071 Web Page; ComponentLink2URL: http://www.national.com/pf/TP/TP3071.html; ComponentLink3Description: N20A package page; ComponentLink3URL: http://www.national.com/packaging/folders/n20a.html
footprint N20A (DIP, 20-Leads, Row Spacing 7.62mm, Pitch 2.54mm, Body 26.07x6.6mm)
pins: 1 GND (power), 2 VFR0 (out), 3 VBB (power), 4 IL3 (io), 5 IL2 (io), 6 FSR (in), 7 DR0 (in), 8 CI/O (io), 9 CCLK (in), 10 ~{CS} (in), 11 MR (in), 12 BCLK/MCLK (in), 13 DX0 (hiz), 14 ~{TSX}0 (oc), 15 FSX (in), 16 IL4 (io), 17 IL1 (io), 18 IL0 (io), 19 VCC (power), 20 VFXI (in)

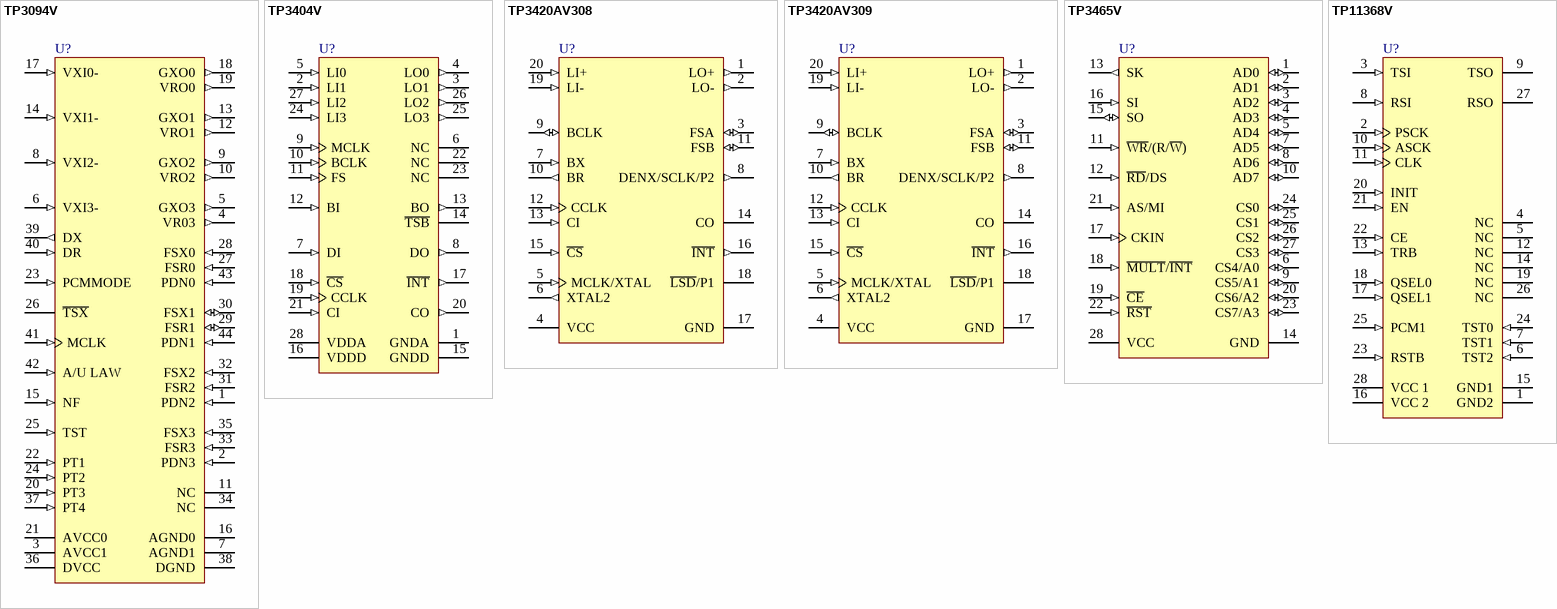
[diagram p7: symbols TP3094V to TP11368V]

## TP3094V
designator U?
Quad PCM Codec/Filter; PartNumber: TP3094V; Manufacturer: National Semiconductor; CompType: Analog IC; PackageTopMarking: NSUZXYYTTE#*TP3094V; PowerWise: N; Published: 4-Dec-2008; DatasheetVersion: Feb-2000; PackageVersion: revK, Dec-1993; PackageReference: V44A; Publisher: Altium Limited; PackageDescription: Plastic Chip Carrier, Sq, .050in Pitch, 44 Lead; PinCount: 44; DigiKeyPartNumber: TP3094V-ND; Code_IPC: PLCC-44; ComponentLink1Description: TP3094 Datasheet; ComponentLink1URL: http://www.national.com/ds.cgi/TP/TP3094.pdf; ComponentLink2Description: TP3094 Web Page; ComponentLink2URL: http://www.national.com/pf/TP/TP3094.html; ComponentLink3Description: V44A package page; ComponentLink3URL: http://www.national.com/packaging/folders/v44a.html
footprint V44A_N (Leaded Chip Carrier, 44-Leads, Body 16.6x16.6mm, Pitch 1.27mm, IPC Medium Density)
footprint V44A_L (Leaded Chip Carrier, 44-Leads, Body 16.6x16.6mm, Pitch 1.27mm, IPC High Density)
footprint V44A_M (Leaded Chip Carrier, 44-Leads, Body 16.6x16.6mm, Pitch 1.27mm, IPC Low Density)
pins: 1 PDN2 (in), 2 PDN3 (in), 3 AVCC1 (power), 4 VR03 (out), 5 GXO3 (out), 6 VXI3- (in), 7 AGND1 (power), 8 VXI2- (in), 9 GXO2 (out), 10 VRO2 (out), 11 NC, 12 VRO1 (out), 13 GXO1 (out), 14 VXI1- (in), 15 NF (in), 16 AGND0 (power), 17 VXI0- (in), 18 GXO0 (out), 19 VRO0 (out), 20 PT3 (in), 21 AVCC0 (power), 22 PT1 (in), 23 PCMMODE (in), 24 PT2 (in), 25 TST (in), 26 ~{TSX} (oc), 27 FSR0 (in), 28 FSX0 (in), 29 FSR1 (io), 30 FSX1 (io), 31 FSR2 (in), 32 FSX2 (in), 33 FSR3 (in), 34 NC, 35 FSX3 (in), 36 DVCC (power), 37 PT4 (in), 38 DGND (power), 39 DX (out), 40 DR (in), 41 MCLK (in), 42 A/U LAW (in), 43 PDN0 (in), 44 PDN1 (in)

## TP3404V
designator U?
Quad Digital Adapter for Subscriber Loops (QDASL); PartNumber: TP3404V; Manufacturer: National Semiconductor; CompType: Analog IC; PackageTopMarking: NSUZXYYTT*TP3404V; PowerWise: N; Published: 4-Dec-2008; DatasheetVersion: Dec-2004; PackageVersion: revK, Dec-1993; PackageReference: V28A; Publisher: Altium Limited; PackageDescription: Plastic Chip Carrier, Sq., .050in Pitch, 28 Lead; PinCount: 28; DigiKeyPartNumber: TP3404V-ND; Code_IPC: PLCC-28; ComponentLink1Description: TP3404 Datasheet; ComponentLink1URL: http://www.national.com/ds.cgi/TP/TP3404.pdf; ComponentLink2Description: TP3404 Web Page; ComponentLink2URL: http://www.national.com/pf/TP/TP3404.html; ComponentLink3Description: V28A package page; ComponentLink3URL: http://www.national.com/packaging/folders/v28a.html
footprint V28A_N (Leaded Chip Carrier, 28-Leads, Body 11.5x11.5mm, Pitch 1.27mm, IPC Medium Density)
footprint V28A_L (Leaded Chip Carrier, 28-Leads, Body 11.5x11.5mm, Pitch 1.27mm, IPC High Density)
footprint V28A_M (Leaded Chip Carrier, 28-Leads, Body 11.5x11.5mm, Pitch 1.27mm, IPC Low Density)
pins: 1 GNDA (power), 2 LI1 (in), 3 LO1 (out), 4 LO0 (out), 5 LI0 (in), 6 NC, 7 DI (in), 8 DO (out), 9 MCLK (in), 10 BCLK (in), 11 FS (in), 12 BI (in), 13 BO (out), 14 ~{TSB} (oc), 15 GNDD (power), 16 VDDD (power), 17 ~{INT} (out), 18 ~{CS} (in), 19 CCLK (in), 20 CO (out), 21 CI (in), 22 NC, 23 NC, 24 LI3 (in), 25 LO3 (out), 26 LO2 (out), 27 LI2 (in), 28 VDDA (power)

## TP3420AV308
designator U?
ISDN S/T Interface Device; PartNumber: TP3420AV308; Manufacturer: National Semiconductor; CompType: Analog IC; PackageTopMarking: NSUZXYTT*TP3420AV*308; PowerWise: N; Published: 4-Dec-2008; DatasheetVersion: Jul-1994; PackageVersion: revL, Dec-1993; PackageReference: V20A; Publisher: Altium Limited; PackageDescription: Plastic Chip Carrier, Sq., .050in Pitch, 20 Lead; PinCount: 20; DigiKeyPartNumber: TP3420AV308-ND; Code_JEDEC: MO-047-AA; Code_IPC: PLCC-20; ComponentLink1Description: TP3420A Datasheet; ComponentLink1URL: http://www.national.com/ds.cgi/TP/TP3420A.pdf; ComponentLink2Description: TP3420A Web Page; ComponentLink2URL: http://www.national.com/pf/TP/TP3420A.html; ComponentLink3Description: V20A package page; ComponentLink3URL: http://www.national.com/packaging/folders/v20a.html
footprint V20A_N (Leaded Chip Carrier, 20-Leads, Body 9x9mm, Pitch 1.27mm, IPC Medium Density)
footprint V20A_L (Leaded Chip Carrier, 20-Leads, Body 9x9mm, Pitch 1.27mm, IPC High Density)
footprint V20A_M (Leaded Chip Carrier, 20-Leads, Body 9x9mm, Pitch 1.27mm, IPC Low Density)
pins: 1 LO+ (out), 2 LO- (out), 3 FSA (io), 4 VCC (power), 5 MCLK/XTAL (in), 6 XTAL2 (out), 7 BX (in), 8 DENX/SCLK/P2 (out), 9 BCLK (io), 10 BR (out), 11 FSB (io), 12 CCLK (in), 13 CI (in), 14 CO (hiz), 15 ~{CS} (in), 16 ~{INT} (out), 17 GND (power), 18 ~{LSD}/P1 (hiz), 19 LI- (in), 20 LI+ (in)

## TP3420AV309
designator U?
ISDN S/T Interface Device; PartNumber: TP3420AV309; Manufacturer: National Semiconductor; CompType: Analog IC; PackageTopMarking: NSUZXYTT*TP3420AV*309; PowerWise: N; Published: 4-Dec-2008; DatasheetVersion: Jul-1994; PackageVersion: revL, Dec-1993; PackageReference: V20A; Publisher: Altium Limited; PackageDescription: Plastic Chip Carrier, Sq., .050in Pitch, 20 Lead; PinCount: 20; DigiKeyPartNumber: TP3420AV309-ND; Code_JEDEC: MO-047-AA; Code_IPC: PLCC-20; ComponentLink1Description: TP3420A Datasheet; ComponentLink1URL: http://www.national.com/ds.cgi/TP/TP3420A.pdf; ComponentLink2Description: TP3420A Web Page; ComponentLink2URL: http://www.national.com/pf/TP/TP3420A.html; ComponentLink3Description: V20A package page; ComponentLink3URL: http://www.national.com/packaging/folders/v20a.html
footprint V20A_N (Leaded Chip Carrier, 20-Leads, Body 9x9mm, Pitch 1.27mm, IPC Medium Density)
footprint V20A_L (Leaded Chip Carrier, 20-Leads, Body 9x9mm, Pitch 1.27mm, IPC High Density)
footprint V20A_M (Leaded Chip Carrier, 20-Leads, Body 9x9mm, Pitch 1.27mm, IPC Low Density)
pins: 1 LO+ (out), 2 LO- (out), 3 FSA (io), 4 VCC (power), 5 MCLK/XTAL (in), 6 XTAL2 (out), 7 BX (in), 8 DENX/SCLK/P2 (out), 9 BCLK (io), 10 BR (out), 11 FSB (io), 12 CCLK (in), 13 CI (in), 14 CO (hiz), 15 ~{CS} (in), 16 ~{INT} (out), 17 GND (power), 18 ~{LSD}/P1 (hiz), 19 LI- (in), 20 LI+ (in)

## TP3465V
designator U?
MICROWIRE Interface Device (MID); PartNumber: TP3465V; Manufacturer: National Semiconductor; CompType: Analog IC; PackageTopMarking: NSUZXYYTT*TP3465V*MID; PowerWise: N; Published: 4-Dec-2008; DatasheetVersion: Jul-1999; PackageVersion: revK, Dec-1993; PackageReference: V28A; Publisher: Altium Limited; PackageDescription: Plastic Chip Carrier, Sq., .050in Pitch, 28 Lead; PinCount: 28; DigiKeyPartNumber: TP3465V-ND; Code_IPC: PLCC-28; ComponentLink1Description: TP3465 Datasheet; ComponentLink1URL: http://www.national.com/ds.cgi/TP/TP3465.pdf; ComponentLink2Description: TP3465 Web Page; ComponentLink2URL: http://www.national.com/pf/TP/TP3465.html; ComponentLink3Description: V28A package page; ComponentLink3URL: http://www.national.com/packaging/folders/v28a.html
footprint V28A_N (Leaded Chip Carrier, 28-Leads, Body 11.5x11.5mm, Pitch 1.27mm, IPC Medium Density)
footprint V28A_L (Leaded Chip Carrier, 28-Leads, Body 11.5x11.5mm, Pitch 1.27mm, IPC High Density)
footprint V28A_M (Leaded Chip Carrier, 28-Leads, Body 11.5x11.5mm, Pitch 1.27mm, IPC Low Density)
pins: 1 AD0 (io), 2 AD1 (io), 3 AD2 (io), 4 AD3 (io), 5 AD4 (io), 6 CS4/A0 (io), 7 AD5 (io), 8 AD6 (io), 9 CS5/A1 (io), 10 AD7 (io), 11 ~{WR}/(R/~{W}) (in), 12 ~{RD}/DS (in), 13 SK (out), 14 GND (power), 15 SO (io), 16 SI (in), 17 CKIN (in), 18 ~{MULT}/~{INT} (in), 19 ~{CE} (in), 20 CS6/A2 (io), 21 AS/MI (in), 22 ~{RST} (in), 23 CS7/A3 (io), 24 CS0 (io), 25 CS1 (io), 26 CS2 (io), 27 CS3 (io), 28 VCC (power)

## TP11368V
designator U?
Octal Adaptive Differential PCM Processor; PartNumber: TP11368V; Manufacturer: National Semiconductor; CompType: Analog IC; PackageTopMarking: NSUZXYYTT*TP11368V; PowerWise: N; Published: 4-Dec-2008; DatasheetVersion: Mar-1997; PackageVersion: revK, Dec-1993; PackageReference: V28A; Publisher: Altium Limited; PackageDescription: Plastic Chip Carrier, Sq., .050in Pitch, 28 Lead; PinCount: 28; DigiKeyPartNumber: TP11368V-ND; Code_IPC: PLCC-28; ComponentLink1Description: TP11368 Datasheet; ComponentLink1URL: http://www.national.com/ds.cgi/TP/TP11368.pdf; ComponentLink2Description: TP11368 Web Page; ComponentLink2URL: http://www.national.com/pf/TP/TP11368.html; ComponentLink3Description: V28A package page; ComponentLink3URL: http://www.national.com/packaging/folders/v28a.html
footprint V28A_N (Leaded Chip Carrier, 28-Leads, Body 11.5x11.5mm, Pitch 1.27mm, IPC Medium Density)
footprint V28A_L (Leaded Chip Carrier, 28-Leads, Body 11.5x11.5mm, Pitch 1.27mm, IPC High Density)
footprint V28A_M (Leaded Chip Carrier, 28-Leads, Body 11.5x11.5mm, Pitch 1.27mm, IPC Low Density)
pins: 1 GND2 (power), 2 PSCK (in), 3 TSI (in), 4 NC, 5 NC, 6 TST2 (in), 7 TST1 (in), 8 RSI (in), 9 TSO (hiz), 10 ASCK (in), 11 CLK (in), 12 NC, 13 TRB (in), 14 NC, 15 GND1 (power), 16 VCC 2 (power), 17 QSEL1 (in), 18 QSEL0 (in), 19 NC, 20 INIT (in), 21 EN (in), 22 CE (in), 23 RSTB (in), 24 TST0 (in), 25 PCM1 (in), 26 NC, 27 RSO (hiz), 28 VCC 1 (power)